# Altium integrated library ADG40X.IntLib: 2 symbols
Pins are listed as number, name and electrical type; pins without a type are passive.

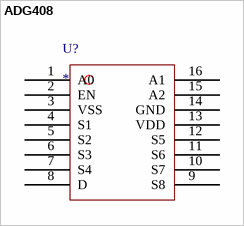
[diagram p0: symbol ADG408]

## ADG408
designator U?
footprint ADG40X(SOIC127P600X175-16N) (SOIC, 16-Leads, Body 9.90x3.90mm, Pitch 1.27mm, IPC Medium Density)
pins: 1 A0, 2 EN, 3 VSS, 4 S1, 5 S2, 6 S3, 7 S4, 8 D, 9 S8, 10 S7, 11 S6, 12 S5, 13 VDD, 14 GND, 15 A2, 16 A1


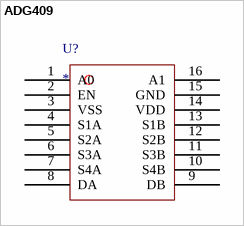
[diagram p1: symbol ADG409]

## ADG409
designator U?
footprint ADG40X(SOIC127P600X175-16N) (SOIC, 16-Leads, Body 9.90x3.90mm, Pitch 1.27mm, IPC Medium Density)
pins: 1 A0, 2 EN, 3 VSS, 4 S1A, 5 S2A, 6 S3A, 7 S4A, 8 DA, 9 DB, 10 S4B, 11 S3B, 12 S2B, 13 S1B, 14 VDD, 15 GND, 16 A1